# EAGLE library part DISPLAY240X240IPSTFT (library Display+tft)
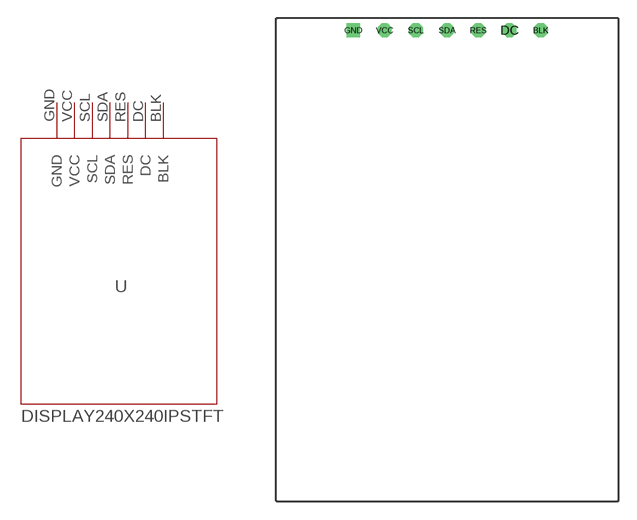
[diagram p0: symbol with the pads of TFT; footprint TFT]

Designator prefix -

## DISPLAY240X240IPSTFT  [TFT]
BLK  BLK
DC  DC
GND  GND  pwr
RES  RES
SCL  SCL
SDA  SDA
VCC  VCC  pwr

## Footprint TFT (pad centres in mm)
drill 0.6 octagon: BLK 7.46,17.31; DC 4.92,17.31; RES 2.38,17.31; SCL -2.7,17.31; SDA -0.16,17.31; VCC -5.24,17.31
drill 0.6 square: GND -7.78,17.31